# EAGLE library part SIGE4120 (library mylib)
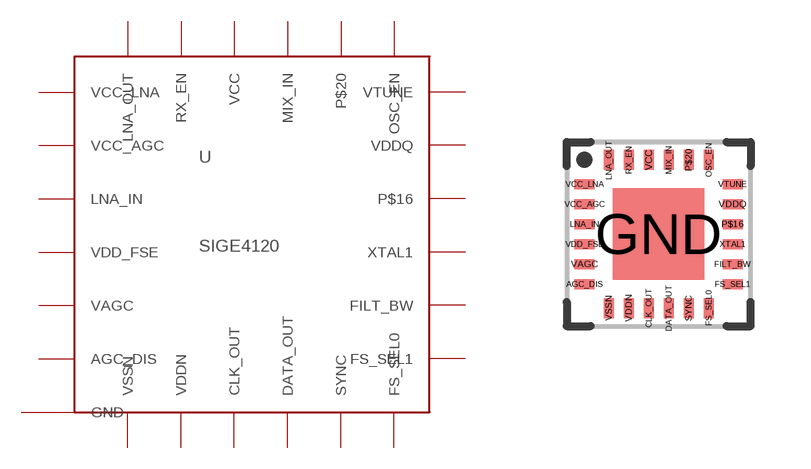
[diagram p0: symbol with the pads of SIGE4120; footprint SIGE4120]

Designator prefix -

## SIGE4120  [SIGE4120]
AGC_DIS  AGC_DIS  in
CLK_OUT  CLK_OUT  out
DATA_OUT  DATA_OUT  out
FILT_BW  FILT_BW  in
FS_SEL0  FS_SEL0  in
FS_SEL1  FS_SEL1  in
GND  GND  in
LNA_IN  LNA_IN  in
LNA_OUT  LNA_OUT  out
MIX_IN  MIX_IN  in
OSC_EN  OSC_EN  in
P$16  P$16  nc
P$20  P$20  nc
RX_EN  RX_EN  in
SYNC  SYNC  out
VAGC  VAGC  in
VCC  VCC  in
VCC_AGC  VCC_AGC  in
VCC_LNA  VCC_LNA  in
VDD_FSE  VDD_FSE  in
VDDN  VDDN  in
VDDQ  VDDQ  in
VSSN  VSSN  in
VTUNE  VTUNE  in
XTAL1  XTAL1  in

## Footprint SIGE4120 (pad centres in mm)
smd 0.5 x 0.25: AGC_DIS -1.85,-1.25; FILT_BW 1.85,-0.75; FS_SEL1 1.85,-1.25; LNA_IN -1.85,0.25; P$16 1.85,0.25; VAGC -1.85,-0.75; VCC_AGC -1.85,0.75; VCC_LNA -1.85,1.25; VDD_FSE -1.85,-0.25; VDDQ 1.85,0.75; VTUNE 1.85,1.25; XTAL1 1.85,-0.25
smd 0.25 x 0.5: CLK_OUT -0.25,-1.85; DATA_OUT 0.25,-1.85; FS_SEL0 1.25,-1.85; LNA_OUT -1.25,1.85; MIX_IN 0.25,1.85; OSC_EN 1.25,1.85; P$20 0.75,1.85; RX_EN -0.75,1.85; SYNC 0.75,-1.85; VCC -0.25,1.85; VDDN -0.75,-1.85; VSSN -1.25,-1.85
smd 2.3 x 2.3: GND 0,0